# Altium integrated library JQ1a-12v.IntLib: 1 symbol
Pins are listed as number, name and electrical type; pins without a type are passive.

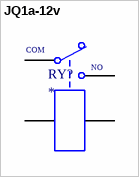
[diagram p0: symbol JQ1a-12v]

## JQ1a-12v
designator RY?
Datasheet: https://www.mouser.es/datasheet/2/315/panasonic%20electric%20works_jq-catalog-1196796.pdf
footprint JQ1a-12v
pins: 1 COM, 2 NO, 3, 4